# Altium schematic symbol library MOSFET,N Ch,200V,72A.Schlib: 1 symbol
Pins are listed as number, name and electrical type; pins without a type are passive.

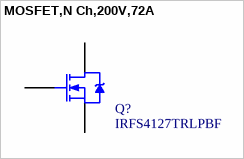
[diagram p0: symbol MOSFET,N Ch,200V,72A]

## MOSFET,N Ch,200V,72A
designator Q?, comment IRFS4127TRLPBF
N-Channel 200V 72A (Tc) 375W (Tc) Surface Mount D2PAK
pins: 1 G, 2 D, 3 S